# Altium footprint library BGA_Sq_127P.PcbLib: 89 footprints (part 4 of 20)
Each footprint in its own frame and in the unit in brackets; x right, y up, seen from the top. Pads: shape width x height; smd on the part's side, far side on the other; paste and mask are expansions set on the pad; w line width, h text height; cw(c..) or ccw(c..) is an arc to the next point about the centre after c.
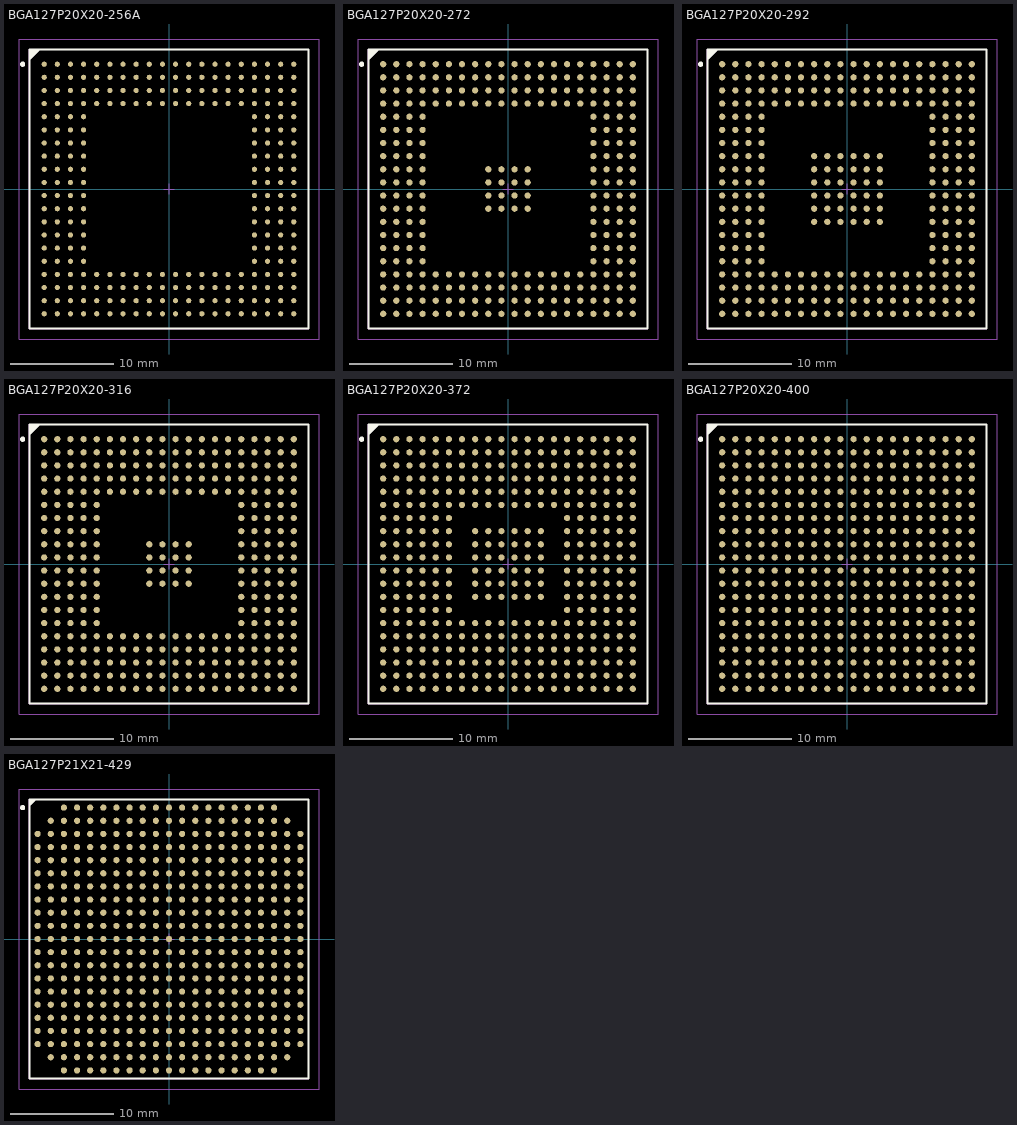
[diagram p3: the footprints below, top view; thin cyan lines are the x and y axes]

## BGA127P20X20-256A [mm] "BGA, 256-Leads, Body 27x27mm, Pitch 1.27mm"
height 1.67
pads (256):
  round 0.5 smd: A1(-12.065,12.065) A2(-10.795,12.065) A3(-9.525,12.065) A4(-8.255,12.065) A5(-6.985,12.065) A6(-5.715,12.065) A7(-4.445,12.065) A8(-3.175,12.065) A9(-1.905,12.065) A10(-0.635,12.065) A11(0.635,12.065) A12(1.905,12.065) A13(3.175,12.065) A14(4.445,12.065) A15(5.715,12.065) A16(6.985,12.065) A17(8.255,12.065) A18(9.525,12.065) A19(10.795,12.065) A20(12.065,12.065) B1(-12.065,10.795) B2(-10.795,10.795) B3(-9.525,10.795) B4(-8.255,10.795) B5(-6.985,10.795) B6(-5.715,10.795) B7(-4.445,10.795) B8(-3.175,10.795) B9(-1.905,10.795) B10(-0.635,10.795) B11(0.635,10.795) B12(1.905,10.795) B13(3.175,10.795) B14(4.445,10.795) B15(5.715,10.795) B16(6.985,10.795) B17(8.255,10.795) B18(9.525,10.795) B19(10.795,10.795) B20(12.065,10.795) C1(-12.065,9.525) C2(-10.795,9.525) C3(-9.525,9.525) C4(-8.255,9.525) C5(-6.985,9.525) C6(-5.715,9.525) C7(-4.445,9.525) C8(-3.175,9.525) C9(-1.905,9.525) C10(-0.635,9.525) C11(0.635,9.525) C12(1.905,9.525) C13(3.175,9.525) C14(4.445,9.525) C15(5.715,9.525) C16(6.985,9.525) C17(8.255,9.525) C18(9.525,9.525) C19(10.795,9.525) C20(12.065,9.525) D1(-12.065,8.255) D2(-10.795,8.255) D3(-9.525,8.255) D4(-8.255,8.255) D5(-6.985,8.255) D6(-5.715,8.255) D7(-4.445,8.255) D8(-3.175,8.255) D9(-1.905,8.255) D10(-0.635,8.255) D11(0.635,8.255) D12(1.905,8.255) D13(3.175,8.255) D14(4.445,8.255) D15(5.715,8.255) D16(6.985,8.255) D17(8.255,8.255) D18(9.525,8.255) D19(10.795,8.255) D20(12.065,8.255) E1(-12.065,6.985) E2(-10.795,6.985) E3(-9.525,6.985) E4(-8.255,6.985) E17(8.255,6.985) E18(9.525,6.985) E19(10.795,6.985) E20(12.065,6.985) F1(-12.065,5.715) F2(-10.795,5.715) F3(-9.525,5.715) F4(-8.255,5.715) F17(8.255,5.715) F18(9.525,5.715) F19(10.795,5.715) F20(12.065,5.715) G1(-12.065,4.445) G2(-10.795,4.445) G3(-9.525,4.445) G4(-8.255,4.445) G17(8.255,4.445) G18(9.525,4.445) G19(10.795,4.445) G20(12.065,4.445) H1(-12.065,3.175) H2(-10.795,3.175) H3(-9.525,3.175) H4(-8.255,3.175) H17(8.255,3.175) H18(9.525,3.175) H19(10.795,3.175) H20(12.065,3.175) J1(-12.065,1.905) J2(-10.795,1.905) J3(-9.525,1.905) J4(-8.255,1.905) J17(8.255,1.905) J18(9.525,1.905) J19(10.795,1.905) J20(12.065,1.905) K1(-12.065,0.635) K2(-10.795,0.635) K3(-9.525,0.635) K4(-8.255,0.635) K17(8.255,0.635) K18(9.525,0.635) K19(10.795,0.635) K20(12.065,0.635) L1(-12.065,-0.635) L2(-10.795,-0.635) L3(-9.525,-0.635) L4(-8.255,-0.635) L17(8.255,-0.635) L18(9.525,-0.635) L19(10.795,-0.635) L20(12.065,-0.635) M1(-12.065,-1.905) M2(-10.795,-1.905) M3(-9.525,-1.905) M4(-8.255,-1.905) M17(8.255,-1.905) M18(9.525,-1.905) M19(10.795,-1.905) M20(12.065,-1.905) N1(-12.065,-3.175) N2(-10.795,-3.175) N3(-9.525,-3.175) N4(-8.255,-3.175) N17(8.255,-3.175) N18(9.525,-3.175) N19(10.795,-3.175) N20(12.065,-3.175) P1(-12.065,-4.445) P2(-10.795,-4.445) P3(-9.525,-4.445) P4(-8.255,-4.445) P17(8.255,-4.445) P18(9.525,-4.445) P19(10.795,-4.445) P20(12.065,-4.445) R1(-12.065,-5.715) R2(-10.795,-5.715) R3(-9.525,-5.715) R4(-8.255,-5.715) R17(8.255,-5.715) R18(9.525,-5.715) R19(10.795,-5.715) R20(12.065,-5.715) T1(-12.065,-6.985) T2(-10.795,-6.985) T3(-9.525,-6.985) T4(-8.255,-6.985) T17(8.255,-6.985) T18(9.525,-6.985) T19(10.795,-6.985) T20(12.065,-6.985) U1(-12.065,-8.255) U2(-10.795,-8.255) U3(-9.525,-8.255) U4(-8.255,-8.255) U5(-6.985,-8.255) U6(-5.715,-8.255) U7(-4.445,-8.255) U8(-3.175,-8.255) U9(-1.905,-8.255) U10(-0.635,-8.255) U11(0.635,-8.255) U12(1.905,-8.255) U13(3.175,-8.255) U14(4.445,-8.255) U15(5.715,-8.255) U16(6.985,-8.255) U17(8.255,-8.255) U18(9.525,-8.255) U19(10.795,-8.255) U20(12.065,-8.255) V1(-12.065,-9.525) V2(-10.795,-9.525) V3(-9.525,-9.525) V4(-8.255,-9.525) V5(-6.985,-9.525) V6(-5.715,-9.525) V7(-4.445,-9.525) V8(-3.175,-9.525) V9(-1.905,-9.525) V10(-0.635,-9.525) V11(0.635,-9.525) V12(1.905,-9.525) V13(3.175,-9.525) V14(4.445,-9.525) V15(5.715,-9.525) V16(6.985,-9.525) V17(8.255,-9.525) V18(9.525,-9.525) V19(10.795,-9.525) V20(12.065,-9.525) W1(-12.065,-10.795) W2(-10.795,-10.795) W3(-9.525,-10.795) W4(-8.255,-10.795) W5(-6.985,-10.795) W6(-5.715,-10.795) W7(-4.445,-10.795) W8(-3.175,-10.795) W9(-1.905,-10.795) W10(-0.635,-10.795) W11(0.635,-10.795) W12(1.905,-10.795) W13(3.175,-10.795) W14(4.445,-10.795) W15(5.715,-10.795) W16(6.985,-10.795) W17(8.255,-10.795) W18(9.525,-10.795) W19(10.795,-10.795) W20(12.065,-10.795) Y1(-12.065,-12.065) Y2(-10.795,-12.065) Y3(-9.525,-12.065) Y4(-8.255,-12.065) Y5(-6.985,-12.065) Y6(-5.715,-12.065) Y7(-4.445,-12.065) Y8(-3.175,-12.065) Y9(-1.905,-12.065) Y10(-0.635,-12.065) Y11(0.635,-12.065) Y12(1.905,-12.065) Y13(3.175,-12.065) Y14(4.445,-12.065) Y15(5.715,-12.065) Y16(6.985,-12.065) Y17(8.255,-12.065) Y18(9.525,-12.065) Y19(10.795,-12.065) Y20(12.065,-12.065)
Top Overlay:
  circle w0.25: c-14.15,12.065 r0.125
  region: -12.5,13.5 -13.5,12.5 -13.5,13.5
  lines w0.2: -13.5,12.5 -12.5,13.5 ; -13.5,-13.5 13.5,-13.5 13.5,13.5 -13.5,13.5 -13.5,-13.5
Mechanical 13:
  lines w0.1: -13.5,-13.5 13.5,-13.5 13.5,13.5 -13.5,13.5 -13.5,-13.5
Mechanical 15:
  lines w0.1: -0.5,0 0.5,0 ; 0,-0.5 0,0.5 ; -14.5,-14.5 14.5,-14.5 14.5,14.5 -14.5,14.5 -14.5,-14.5
3D body: height 1.67, standoff 0, extent -13.5,-13.5 13.5,13.5

## BGA127P20X20-272 [mm] "BGA, 272-Leads, Body 27x27mm, Pitch 1.27mm"
height 2.5
pads (272):
  round 0.6 smd: A1(-12.065,12.065) A2(-10.795,12.065) A3(-9.525,12.065) A4(-8.255,12.065) A5(-6.985,12.065) A6(-5.715,12.065) A7(-4.445,12.065) A8(-3.175,12.065) A9(-1.905,12.065) A10(-0.635,12.065) A11(0.635,12.065) A12(1.905,12.065) A13(3.175,12.065) A14(4.445,12.065) A15(5.715,12.065) A16(6.985,12.065) A17(8.255,12.065) A18(9.525,12.065) A19(10.795,12.065) A20(12.065,12.065) B1(-12.065,10.795) B2(-10.795,10.795) B3(-9.525,10.795) B4(-8.255,10.795) B5(-6.985,10.795) B6(-5.715,10.795) B7(-4.445,10.795) B8(-3.175,10.795) B9(-1.905,10.795) B10(-0.635,10.795) B11(0.635,10.795) B12(1.905,10.795) B13(3.175,10.795) B14(4.445,10.795) B15(5.715,10.795) B16(6.985,10.795) B17(8.255,10.795) B18(9.525,10.795) B19(10.795,10.795) B20(12.065,10.795) C1(-12.065,9.525) C2(-10.795,9.525) C3(-9.525,9.525) C4(-8.255,9.525) C5(-6.985,9.525) C6(-5.715,9.525) C7(-4.445,9.525) C8(-3.175,9.525) C9(-1.905,9.525) C10(-0.635,9.525) C11(0.635,9.525) C12(1.905,9.525) C13(3.175,9.525) C14(4.445,9.525) C15(5.715,9.525) C16(6.985,9.525) C17(8.255,9.525) C18(9.525,9.525) C19(10.795,9.525) C20(12.065,9.525) D1(-12.065,8.255) D2(-10.795,8.255) D3(-9.525,8.255) D4(-8.255,8.255) D5(-6.985,8.255) D6(-5.715,8.255) D7(-4.445,8.255) D8(-3.175,8.255) D9(-1.905,8.255) D10(-0.635,8.255) D11(0.635,8.255) D12(1.905,8.255) D13(3.175,8.255) D14(4.445,8.255) D15(5.715,8.255) D16(6.985,8.255) D17(8.255,8.255) D18(9.525,8.255) D19(10.795,8.255) D20(12.065,8.255) E1(-12.065,6.985) E2(-10.795,6.985) E3(-9.525,6.985) E4(-8.255,6.985) E17(8.255,6.985) E18(9.525,6.985) E19(10.795,6.985) E20(12.065,6.985) F1(-12.065,5.715) F2(-10.795,5.715) F3(-9.525,5.715) F4(-8.255,5.715) F17(8.255,5.715) F18(9.525,5.715) F19(10.795,5.715) F20(12.065,5.715) G1(-12.065,4.445) G2(-10.795,4.445) G3(-9.525,4.445) G4(-8.255,4.445) G17(8.255,4.445) G18(9.525,4.445) G19(10.795,4.445) G20(12.065,4.445) H1(-12.065,3.175) H2(-10.795,3.175) H3(-9.525,3.175) H4(-8.255,3.175) H17(8.255,3.175) H18(9.525,3.175) H19(10.795,3.175) H20(12.065,3.175) J1(-12.065,1.905) J2(-10.795,1.905) J3(-9.525,1.905) J4(-8.255,1.905) J9(-1.905,1.905) J10(-0.635,1.905) J11(0.635,1.905) J12(1.905,1.905) J17(8.255,1.905) J18(9.525,1.905) J19(10.795,1.905) J20(12.065,1.905) K1(-12.065,0.635) K2(-10.795,0.635) K3(-9.525,0.635) K4(-8.255,0.635) K9(-1.905,0.635) K10(-0.635,0.635) K11(0.635,0.635) K12(1.905,0.635) K17(8.255,0.635) K18(9.525,0.635) K19(10.795,0.635) K20(12.065,0.635) L1(-12.065,-0.635) L2(-10.795,-0.635) L3(-9.525,-0.635) L4(-8.255,-0.635) L9(-1.905,-0.635) L10(-0.635,-0.635) L11(0.635,-0.635) L12(1.905,-0.635) L17(8.255,-0.635) L18(9.525,-0.635) L19(10.795,-0.635) L20(12.065,-0.635) M1(-12.065,-1.905) M2(-10.795,-1.905) M3(-9.525,-1.905) M4(-8.255,-1.905) M9(-1.905,-1.905) M10(-0.635,-1.905) M11(0.635,-1.905) M12(1.905,-1.905) M17(8.255,-1.905) M18(9.525,-1.905) M19(10.795,-1.905) M20(12.065,-1.905) N1(-12.065,-3.175) N2(-10.795,-3.175) N3(-9.525,-3.175) N4(-8.255,-3.175) N17(8.255,-3.175) N18(9.525,-3.175) N19(10.795,-3.175) N20(12.065,-3.175) P1(-12.065,-4.445) P2(-10.795,-4.445) P3(-9.525,-4.445) P4(-8.255,-4.445) P17(8.255,-4.445) P18(9.525,-4.445) P19(10.795,-4.445) P20(12.065,-4.445) R1(-12.065,-5.715) R2(-10.795,-5.715) R3(-9.525,-5.715) R4(-8.255,-5.715) R17(8.255,-5.715) R18(9.525,-5.715) R19(10.795,-5.715) R20(12.065,-5.715) T1(-12.065,-6.985) T2(-10.795,-6.985) T3(-9.525,-6.985) T4(-8.255,-6.985) T17(8.255,-6.985) T18(9.525,-6.985) T19(10.795,-6.985) T20(12.065,-6.985) U1(-12.065,-8.255) U2(-10.795,-8.255) U3(-9.525,-8.255) U4(-8.255,-8.255) U5(-6.985,-8.255) U6(-5.715,-8.255) U7(-4.445,-8.255) U8(-3.175,-8.255) U9(-1.905,-8.255) U10(-0.635,-8.255) U11(0.635,-8.255) U12(1.905,-8.255) U13(3.175,-8.255) U14(4.445,-8.255) U15(5.715,-8.255) U16(6.985,-8.255) U17(8.255,-8.255) U18(9.525,-8.255) U19(10.795,-8.255) U20(12.065,-8.255) V1(-12.065,-9.525) V2(-10.795,-9.525) V3(-9.525,-9.525) V4(-8.255,-9.525) V5(-6.985,-9.525) V6(-5.715,-9.525) V7(-4.445,-9.525) V8(-3.175,-9.525) V9(-1.905,-9.525) V10(-0.635,-9.525) V11(0.635,-9.525) V12(1.905,-9.525) V13(3.175,-9.525) V14(4.445,-9.525) V15(5.715,-9.525) V16(6.985,-9.525) V17(8.255,-9.525) V18(9.525,-9.525) V19(10.795,-9.525) V20(12.065,-9.525) W1(-12.065,-10.795) W2(-10.795,-10.795) W3(-9.525,-10.795) W4(-8.255,-10.795) W5(-6.985,-10.795) W6(-5.715,-10.795) W7(-4.445,-10.795) W8(-3.175,-10.795) W9(-1.905,-10.795) W10(-0.635,-10.795) W11(0.635,-10.795) W12(1.905,-10.795) W13(3.175,-10.795) W14(4.445,-10.795) W15(5.715,-10.795) W16(6.985,-10.795) W17(8.255,-10.795) W18(9.525,-10.795) W19(10.795,-10.795) W20(12.065,-10.795) Y1(-12.065,-12.065) Y2(-10.795,-12.065) Y3(-9.525,-12.065) Y4(-8.255,-12.065) Y5(-6.985,-12.065) Y6(-5.715,-12.065) Y7(-4.445,-12.065) Y8(-3.175,-12.065) Y9(-1.905,-12.065) Y10(-0.635,-12.065) Y11(0.635,-12.065) Y12(1.905,-12.065) Y13(3.175,-12.065) Y14(4.445,-12.065) Y15(5.715,-12.065) Y16(6.985,-12.065) Y17(8.255,-12.065) Y18(9.525,-12.065) Y19(10.795,-12.065) Y20(12.065,-12.065)
Top Overlay:
  circle w0.25: c-14.15,12.065 r0.125
  region: -12.5,13.5 -13.5,12.5 -13.5,13.5
  lines w0.2: -13.5,12.5 -12.5,13.5 ; -13.5,-13.5 -13.5,13.5 13.5,13.5 13.5,-13.5 -13.5,-13.5
Mechanical 13:
  lines w0.1: -13.5,-13.5 -13.5,13.5 13.5,13.5 13.5,-13.5 -13.5,-13.5
Mechanical 15:
  lines w0.1: -0.5,0 0.5,0 ; 0,-0.5 0,0.5 ; -14.5,-14.5 -14.5,14.5 14.5,14.5 14.5,-14.5 -14.5,-14.5
3D body: height 2.5, standoff 0, extent -13.5,-13.5 13.5,13.5

## BGA127P20X20-292 [mm] "BGA, 292-Leads, Body 27x27mm, Pitch 1.27mm"
height 2.58
pads (292):
  round 0.6 smd: A1(-12.065,12.065) A2(-10.795,12.065) A3(-9.525,12.065) A4(-8.255,12.065) A5(-6.985,12.065) A6(-5.715,12.065) A7(-4.445,12.065) A8(-3.175,12.065) A9(-1.905,12.065) A10(-0.635,12.065) A11(0.635,12.065) A12(1.905,12.065) A13(3.175,12.065) A14(4.445,12.065) A15(5.715,12.065) A16(6.985,12.065) A17(8.255,12.065) A18(9.525,12.065) A19(10.795,12.065) A20(12.065,12.065) B1(-12.065,10.795) B2(-10.795,10.795) B3(-9.525,10.795) B4(-8.255,10.795) B5(-6.985,10.795) B6(-5.715,10.795) B7(-4.445,10.795) B8(-3.175,10.795) B9(-1.905,10.795) B10(-0.635,10.795) B11(0.635,10.795) B12(1.905,10.795) B13(3.175,10.795) B14(4.445,10.795) B15(5.715,10.795) B16(6.985,10.795) B17(8.255,10.795) B18(9.525,10.795) B19(10.795,10.795) B20(12.065,10.795) C1(-12.065,9.525) C2(-10.795,9.525) C3(-9.525,9.525) C4(-8.255,9.525) C5(-6.985,9.525) C6(-5.715,9.525) C7(-4.445,9.525) C8(-3.175,9.525) C9(-1.905,9.525) C10(-0.635,9.525) C11(0.635,9.525) C12(1.905,9.525) C13(3.175,9.525) C14(4.445,9.525) C15(5.715,9.525) C16(6.985,9.525) C17(8.255,9.525) C18(9.525,9.525) C19(10.795,9.525) C20(12.065,9.525) D1(-12.065,8.255) D2(-10.795,8.255) D3(-9.525,8.255) D4(-8.255,8.255) D5(-6.985,8.255) D6(-5.715,8.255) D7(-4.445,8.255) D8(-3.175,8.255) D9(-1.905,8.255) D10(-0.635,8.255) D11(0.635,8.255) D12(1.905,8.255) D13(3.175,8.255) D14(4.445,8.255) D15(5.715,8.255) D16(6.985,8.255) D17(8.255,8.255) D18(9.525,8.255) D19(10.795,8.255) D20(12.065,8.255) E1(-12.065,6.985) E2(-10.795,6.985) E3(-9.525,6.985) E4(-8.255,6.985) E17(8.255,6.985) E18(9.525,6.985) E19(10.795,6.985) E20(12.065,6.985) F1(-12.065,5.715) F2(-10.795,5.715) F3(-9.525,5.715) F4(-8.255,5.715) F17(8.255,5.715) F18(9.525,5.715) F19(10.795,5.715) F20(12.065,5.715) G1(-12.065,4.445) G2(-10.795,4.445) G3(-9.525,4.445) G4(-8.255,4.445) G17(8.255,4.445) G18(9.525,4.445) G19(10.795,4.445) G20(12.065,4.445) H1(-12.065,3.175) H2(-10.795,3.175) H3(-9.525,3.175) H4(-8.255,3.175) H8(-3.175,3.175) H9(-1.905,3.175) H10(-0.635,3.175) H11(0.635,3.175) H12(1.905,3.175) H13(3.175,3.175) H17(8.255,3.175) H18(9.525,3.175) H19(10.795,3.175) H20(12.065,3.175) J1(-12.065,1.905) J2(-10.795,1.905) J3(-9.525,1.905) J4(-8.255,1.905) J8(-3.175,1.905) J9(-1.905,1.905) J10(-0.635,1.905) J11(0.635,1.905) J12(1.905,1.905) J13(3.175,1.905) J17(8.255,1.905) J18(9.525,1.905) J19(10.795,1.905) J20(12.065,1.905) K1(-12.065,0.635) K2(-10.795,0.635) K3(-9.525,0.635) K4(-8.255,0.635) K8(-3.175,0.635) K9(-1.905,0.635) K10(-0.635,0.635) K11(0.635,0.635) K12(1.905,0.635) K13(3.175,0.635) K17(8.255,0.635) K18(9.525,0.635) K19(10.795,0.635) K20(12.065,0.635) L1(-12.065,-0.635) L2(-10.795,-0.635) L3(-9.525,-0.635) L4(-8.255,-0.635) L8(-3.175,-0.635) L9(-1.905,-0.635) L10(-0.635,-0.635) L11(0.635,-0.635) L12(1.905,-0.635) L13(3.175,-0.635) L17(8.255,-0.635) L18(9.525,-0.635) L19(10.795,-0.635) L20(12.065,-0.635) M1(-12.065,-1.905) M2(-10.795,-1.905) M3(-9.525,-1.905) M4(-8.255,-1.905) M8(-3.175,-1.905) M9(-1.905,-1.905) M10(-0.635,-1.905) M11(0.635,-1.905) M12(1.905,-1.905) M13(3.175,-1.905) M17(8.255,-1.905) M18(9.525,-1.905) M19(10.795,-1.905) M20(12.065,-1.905) N1(-12.065,-3.175) N2(-10.795,-3.175) N3(-9.525,-3.175) N4(-8.255,-3.175) N8(-3.175,-3.175) N9(-1.905,-3.175) N10(-0.635,-3.175) N11(0.635,-3.175) N12(1.905,-3.175) N13(3.175,-3.175) N17(8.255,-3.175) N18(9.525,-3.175) N19(10.795,-3.175) N20(12.065,-3.175) P1(-12.065,-4.445) P2(-10.795,-4.445) P3(-9.525,-4.445) P4(-8.255,-4.445) P17(8.255,-4.445) P18(9.525,-4.445) P19(10.795,-4.445) P20(12.065,-4.445) R1(-12.065,-5.715) R2(-10.795,-5.715) R3(-9.525,-5.715) R4(-8.255,-5.715) R17(8.255,-5.715) R18(9.525,-5.715) R19(10.795,-5.715) R20(12.065,-5.715) T1(-12.065,-6.985) T2(-10.795,-6.985) T3(-9.525,-6.985) T4(-8.255,-6.985) T17(8.255,-6.985) T18(9.525,-6.985) T19(10.795,-6.985) T20(12.065,-6.985) U1(-12.065,-8.255) U2(-10.795,-8.255) U3(-9.525,-8.255) U4(-8.255,-8.255) U5(-6.985,-8.255) U6(-5.715,-8.255) U7(-4.445,-8.255) U8(-3.175,-8.255) U9(-1.905,-8.255) U10(-0.635,-8.255) U11(0.635,-8.255) U12(1.905,-8.255) U13(3.175,-8.255) U14(4.445,-8.255) U15(5.715,-8.255) U16(6.985,-8.255) U17(8.255,-8.255) U18(9.525,-8.255) U19(10.795,-8.255) U20(12.065,-8.255) V1(-12.065,-9.525) V2(-10.795,-9.525) V3(-9.525,-9.525) V4(-8.255,-9.525) V5(-6.985,-9.525) V6(-5.715,-9.525) V7(-4.445,-9.525) V8(-3.175,-9.525) V9(-1.905,-9.525) V10(-0.635,-9.525) V11(0.635,-9.525) V12(1.905,-9.525) V13(3.175,-9.525) V14(4.445,-9.525) V15(5.715,-9.525) V16(6.985,-9.525) V17(8.255,-9.525) V18(9.525,-9.525) V19(10.795,-9.525) V20(12.065,-9.525) W1(-12.065,-10.795) W2(-10.795,-10.795) W3(-9.525,-10.795) W4(-8.255,-10.795) W5(-6.985,-10.795) W6(-5.715,-10.795) W7(-4.445,-10.795) W8(-3.175,-10.795) W9(-1.905,-10.795) W10(-0.635,-10.795) W11(0.635,-10.795) W12(1.905,-10.795) W13(3.175,-10.795) W14(4.445,-10.795) W15(5.715,-10.795) W16(6.985,-10.795) W17(8.255,-10.795) W18(9.525,-10.795) W19(10.795,-10.795) W20(12.065,-10.795) Y1(-12.065,-12.065) Y2(-10.795,-12.065) Y3(-9.525,-12.065) Y4(-8.255,-12.065) Y5(-6.985,-12.065) Y6(-5.715,-12.065) Y7(-4.445,-12.065) Y8(-3.175,-12.065) Y9(-1.905,-12.065) Y10(-0.635,-12.065) Y11(0.635,-12.065) Y12(1.905,-12.065) Y13(3.175,-12.065) Y14(4.445,-12.065) Y15(5.715,-12.065) Y16(6.985,-12.065) Y17(8.255,-12.065) Y18(9.525,-12.065) Y19(10.795,-12.065) Y20(12.065,-12.065)
Top Overlay:
  circle w0.25: c-14.15,12.065 r0.125
  region: -12.5,13.5 -13.5,12.5 -13.5,13.5
  lines w0.2: -13.5,12.5 -12.5,13.5 ; -13.5,-13.5 -13.5,13.5 13.5,13.5 13.5,-13.5 -13.5,-13.5
Mechanical 13:
  lines w0.1: -13.5,-13.5 -13.5,13.5 13.5,13.5 13.5,-13.5 -13.5,-13.5
Mechanical 15:
  lines w0.1: -0.5,0 0.5,0 ; 0,-0.5 0,0.5 ; -14.5,-14.5 -14.5,14.5 14.5,14.5 14.5,-14.5 -14.5,-14.5
3D body: height 2.58, standoff 0, extent -13.5,-13.5 13.5,13.5

## BGA127P20X20-316 [mm] "BGA, 316-Leads, Body 27x27mm, Pitch 1.27mm"
height 2.65
pads (316):
  round 0.6 smd: A1(-12.065,12.065) A2(-10.795,12.065) A3(-9.525,12.065) A4(-8.255,12.065) A5(-6.985,12.065) A6(-5.715,12.065) A7(-4.445,12.065) A8(-3.175,12.065) A9(-1.905,12.065) A10(-0.635,12.065) A11(0.635,12.065) A12(1.905,12.065) A13(3.175,12.065) A14(4.445,12.065) A15(5.715,12.065) A16(6.985,12.065) A17(8.255,12.065) A18(9.525,12.065) A19(10.795,12.065) A20(12.065,12.065) B1(-12.065,10.795) B2(-10.795,10.795) B3(-9.525,10.795) B4(-8.255,10.795) B5(-6.985,10.795) B6(-5.715,10.795) B7(-4.445,10.795) B8(-3.175,10.795) B9(-1.905,10.795) B10(-0.635,10.795) B11(0.635,10.795) B12(1.905,10.795) B13(3.175,10.795) B14(4.445,10.795) B15(5.715,10.795) B16(6.985,10.795) B17(8.255,10.795) B18(9.525,10.795) B19(10.795,10.795) B20(12.065,10.795) C1(-12.065,9.525) C2(-10.795,9.525) C3(-9.525,9.525) C4(-8.255,9.525) C5(-6.985,9.525) C6(-5.715,9.525) C7(-4.445,9.525) C8(-3.175,9.525) C9(-1.905,9.525) C10(-0.635,9.525) C11(0.635,9.525) C12(1.905,9.525) C13(3.175,9.525) C14(4.445,9.525) C15(5.715,9.525) C16(6.985,9.525) C17(8.255,9.525) C18(9.525,9.525) C19(10.795,9.525) C20(12.065,9.525) D1(-12.065,8.255) D2(-10.795,8.255) D3(-9.525,8.255) D4(-8.255,8.255) D5(-6.985,8.255) D6(-5.715,8.255) D7(-4.445,8.255) D8(-3.175,8.255) D9(-1.905,8.255) D10(-0.635,8.255) D11(0.635,8.255) D12(1.905,8.255) D13(3.175,8.255) D14(4.445,8.255) D15(5.715,8.255) D16(6.985,8.255) D17(8.255,8.255) D18(9.525,8.255) D19(10.795,8.255) D20(12.065,8.255) E1(-12.065,6.985) E2(-10.795,6.985) E3(-9.525,6.985) E4(-8.255,6.985) E5(-6.985,6.985) E6(-5.715,6.985) E7(-4.445,6.985) E8(-3.175,6.985) E9(-1.905,6.985) E10(-0.635,6.985) E11(0.635,6.985) E12(1.905,6.985) E13(3.175,6.985) E14(4.445,6.985) E15(5.715,6.985) E16(6.985,6.985) E17(8.255,6.985) E18(9.525,6.985) E19(10.795,6.985) E20(12.065,6.985) F1(-12.065,5.715) F2(-10.795,5.715) F3(-9.525,5.715) F4(-8.255,5.715) F5(-6.985,5.715) F16(6.985,5.715) F17(8.255,5.715) F18(9.525,5.715) F19(10.795,5.715) F20(12.065,5.715) G1(-12.065,4.445) G2(-10.795,4.445) G3(-9.525,4.445) G4(-8.255,4.445) G5(-6.985,4.445) G16(6.985,4.445) G17(8.255,4.445) G18(9.525,4.445) G19(10.795,4.445) G20(12.065,4.445) H1(-12.065,3.175) H2(-10.795,3.175) H3(-9.525,3.175) H4(-8.255,3.175) H5(-6.985,3.175) H16(6.985,3.175) H17(8.255,3.175) H18(9.525,3.175) H19(10.795,3.175) H20(12.065,3.175) J1(-12.065,1.905) J2(-10.795,1.905) J3(-9.525,1.905) J4(-8.255,1.905) J5(-6.985,1.905) J9(-1.905,1.905) J10(-0.635,1.905) J11(0.635,1.905) J12(1.905,1.905) J16(6.985,1.905) J17(8.255,1.905) J18(9.525,1.905) J19(10.795,1.905) J20(12.065,1.905) K1(-12.065,0.635) K2(-10.795,0.635) K3(-9.525,0.635) K4(-8.255,0.635) K5(-6.985,0.635) K9(-1.905,0.635) K10(-0.635,0.635) K11(0.635,0.635) K12(1.905,0.635) K16(6.985,0.635) K17(8.255,0.635) K18(9.525,0.635) K19(10.795,0.635) K20(12.065,0.635) L1(-12.065,-0.635) L2(-10.795,-0.635) L3(-9.525,-0.635) L4(-8.255,-0.635) L5(-6.985,-0.635) L9(-1.905,-0.635) L10(-0.635,-0.635) L11(0.635,-0.635) L12(1.905,-0.635) L16(6.985,-0.635) L17(8.255,-0.635) L18(9.525,-0.635) L19(10.795,-0.635) L20(12.065,-0.635) M1(-12.065,-1.905) M2(-10.795,-1.905) M3(-9.525,-1.905) M4(-8.255,-1.905) M5(-6.985,-1.905) M9(-1.905,-1.905) M10(-0.635,-1.905) M11(0.635,-1.905) M12(1.905,-1.905) M16(6.985,-1.905) M17(8.255,-1.905) M18(9.525,-1.905) M19(10.795,-1.905) M20(12.065,-1.905) N1(-12.065,-3.175) N2(-10.795,-3.175) N3(-9.525,-3.175) N4(-8.255,-3.175) N5(-6.985,-3.175) N16(6.985,-3.175) N17(8.255,-3.175) N18(9.525,-3.175) N19(10.795,-3.175) N20(12.065,-3.175) P1(-12.065,-4.445) P2(-10.795,-4.445) P3(-9.525,-4.445) P4(-8.255,-4.445) P5(-6.985,-4.445) P16(6.985,-4.445) P17(8.255,-4.445) P18(9.525,-4.445) P19(10.795,-4.445) P20(12.065,-4.445) R1(-12.065,-5.715) R2(-10.795,-5.715) R3(-9.525,-5.715) R4(-8.255,-5.715) R5(-6.985,-5.715) R16(6.985,-5.715) R17(8.255,-5.715) R18(9.525,-5.715) R19(10.795,-5.715) R20(12.065,-5.715) T1(-12.065,-6.985) T2(-10.795,-6.985) T3(-9.525,-6.985) T4(-8.255,-6.985) T5(-6.985,-6.985) T6(-5.715,-6.985) T7(-4.445,-6.985) T8(-3.175,-6.985) T9(-1.905,-6.985) T10(-0.635,-6.985) T11(0.635,-6.985) T12(1.905,-6.985) T13(3.175,-6.985) T14(4.445,-6.985) T15(5.715,-6.985) T16(6.985,-6.985) T17(8.255,-6.985) T18(9.525,-6.985) T19(10.795,-6.985) T20(12.065,-6.985) U1(-12.065,-8.255) U2(-10.795,-8.255) U3(-9.525,-8.255) U4(-8.255,-8.255) U5(-6.985,-8.255) U6(-5.715,-8.255) U7(-4.445,-8.255) U8(-3.175,-8.255) U9(-1.905,-8.255) U10(-0.635,-8.255) U11(0.635,-8.255) U12(1.905,-8.255) U13(3.175,-8.255) U14(4.445,-8.255) U15(5.715,-8.255) U16(6.985,-8.255) U17(8.255,-8.255) U18(9.525,-8.255) U19(10.795,-8.255) U20(12.065,-8.255) V1(-12.065,-9.525) V2(-10.795,-9.525) V3(-9.525,-9.525) V4(-8.255,-9.525) V5(-6.985,-9.525) V6(-5.715,-9.525) V7(-4.445,-9.525) V8(-3.175,-9.525) V9(-1.905,-9.525) V10(-0.635,-9.525) V11(0.635,-9.525) V12(1.905,-9.525) V13(3.175,-9.525) V14(4.445,-9.525) V15(5.715,-9.525) V16(6.985,-9.525) V17(8.255,-9.525) V18(9.525,-9.525) V19(10.795,-9.525) V20(12.065,-9.525) W1(-12.065,-10.795) W2(-10.795,-10.795) W3(-9.525,-10.795) W4(-8.255,-10.795) W5(-6.985,-10.795) W6(-5.715,-10.795) W7(-4.445,-10.795) W8(-3.175,-10.795) W9(-1.905,-10.795) W10(-0.635,-10.795) W11(0.635,-10.795) W12(1.905,-10.795) W13(3.175,-10.795) W14(4.445,-10.795) W15(5.715,-10.795) W16(6.985,-10.795) W17(8.255,-10.795) W18(9.525,-10.795) W19(10.795,-10.795) W20(12.065,-10.795) Y1(-12.065,-12.065) Y2(-10.795,-12.065) Y3(-9.525,-12.065) Y4(-8.255,-12.065) Y5(-6.985,-12.065) Y6(-5.715,-12.065) Y7(-4.445,-12.065) Y8(-3.175,-12.065) Y9(-1.905,-12.065) Y10(-0.635,-12.065) Y11(0.635,-12.065) Y12(1.905,-12.065) Y13(3.175,-12.065) Y14(4.445,-12.065) Y15(5.715,-12.065) Y16(6.985,-12.065) Y17(8.255,-12.065) Y18(9.525,-12.065) Y19(10.795,-12.065) Y20(12.065,-12.065)
Top Overlay:
  circle w0.25: c-14.15,12.065 r0.125
  region: -12.5,13.5 -13.5,12.5 -13.5,13.5
  lines w0.2: -13.5,12.5 -12.5,13.5 ; -13.5,-13.5 -13.5,13.5 13.5,13.5 13.5,-13.5 -13.5,-13.5
Mechanical 13:
  lines w0.1: -13.5,-13.5 -13.5,13.5 13.5,13.5 13.5,-13.5 -13.5,-13.5
Mechanical 15:
  lines w0.1: -0.5,0 0.5,0 ; 0,-0.5 0,0.5 ; -14.5,-14.5 -14.5,14.5 14.5,14.5 14.5,-14.5 -14.5,-14.5
3D body: height 2.65, standoff 0, extent -13.5,-13.5 13.5,13.5

## BGA127P20X20-372 [mm] "372-Ball Plastic Ball Grid Array 1.27 mm Pitch"
height 2.6
pads (372):
  round 0.6 smd: A1(-12.065,12.065) A2(-10.795,12.065) A3(-9.525,12.065) A4(-8.255,12.065) A5(-6.985,12.065) A6(-5.715,12.065) A7(-4.445,12.065) A8(-3.175,12.065) A9(-1.905,12.065) A10(-0.635,12.065) A11(0.635,12.065) A12(1.905,12.065) A13(3.175,12.065) A14(4.445,12.065) A15(5.715,12.065) A16(6.985,12.065) A17(8.255,12.065) A18(9.525,12.065) A19(10.795,12.065) A20(12.065,12.065) B1(-12.065,10.795) B2(-10.795,10.795) B3(-9.525,10.795) B4(-8.255,10.795) B5(-6.985,10.795) B6(-5.715,10.795) B7(-4.445,10.795) B8(-3.175,10.795) B9(-1.905,10.795) B10(-0.635,10.795) B11(0.635,10.795) B12(1.905,10.795) B13(3.175,10.795) B14(4.445,10.795) B15(5.715,10.795) B16(6.985,10.795) B17(8.255,10.795) B18(9.525,10.795) B19(10.795,10.795) B20(12.065,10.795) C1(-12.065,9.525) C2(-10.795,9.525) C3(-9.525,9.525) C4(-8.255,9.525) C5(-6.985,9.525) C6(-5.715,9.525) C7(-4.445,9.525) C8(-3.175,9.525) C9(-1.905,9.525) C10(-0.635,9.525) C11(0.635,9.525) C12(1.905,9.525) C13(3.175,9.525) C14(4.445,9.525) C15(5.715,9.525) C16(6.985,9.525) C17(8.255,9.525) C18(9.525,9.525) C19(10.795,9.525) C20(12.065,9.525) D1(-12.065,8.255) D2(-10.795,8.255) D3(-9.525,8.255) D4(-8.255,8.255) D5(-6.985,8.255) D6(-5.715,8.255) D7(-4.445,8.255) D8(-3.175,8.255) D9(-1.905,8.255) D10(-0.635,8.255) D11(0.635,8.255) D12(1.905,8.255) D13(3.175,8.255) D14(4.445,8.255) D15(5.715,8.255) D16(6.985,8.255) D17(8.255,8.255) D18(9.525,8.255) D19(10.795,8.255) D20(12.065,8.255) E1(-12.065,6.985) E2(-10.795,6.985) E3(-9.525,6.985) E4(-8.255,6.985) E5(-6.985,6.985) E6(-5.715,6.985) E7(-4.445,6.985) E8(-3.175,6.985) E9(-1.905,6.985) E10(-0.635,6.985) E11(0.635,6.985) E12(1.905,6.985) E13(3.175,6.985) E14(4.445,6.985) E15(5.715,6.985) E16(6.985,6.985) E17(8.255,6.985) E18(9.525,6.985) E19(10.795,6.985) E20(12.065,6.985) F1(-12.065,5.715) F2(-10.795,5.715) F3(-9.525,5.715) F4(-8.255,5.715) F5(-6.985,5.715) F6(-5.715,5.715) F7(-4.445,5.715) F8(-3.175,5.715) F9(-1.905,5.715) F10(-0.635,5.715) F11(0.635,5.715) F12(1.905,5.715) F13(3.175,5.715) F14(4.445,5.715) F15(5.715,5.715) F16(6.985,5.715) F17(8.255,5.715) F18(9.525,5.715) F19(10.795,5.715) F20(12.065,5.715) G1(-12.065,4.445) G2(-10.795,4.445) G3(-9.525,4.445) G4(-8.255,4.445) G5(-6.985,4.445) G6(-5.715,4.445) G15(5.715,4.445) G16(6.985,4.445) G17(8.255,4.445) G18(9.525,4.445) G19(10.795,4.445) G20(12.065,4.445) H1(-12.065,3.175) H2(-10.795,3.175) H3(-9.525,3.175) H4(-8.255,3.175) H5(-6.985,3.175) H6(-5.715,3.175) H8(-3.175,3.175) H9(-1.905,3.175) H10(-0.635,3.175) H11(0.635,3.175) H12(1.905,3.175) H13(3.175,3.175) H15(5.715,3.175) H16(6.985,3.175) H17(8.255,3.175) H18(9.525,3.175) H19(10.795,3.175) H20(12.065,3.175) J1(-12.065,1.905) J2(-10.795,1.905) J3(-9.525,1.905) J4(-8.255,1.905) J5(-6.985,1.905) J6(-5.715,1.905) J8(-3.175,1.905) J9(-1.905,1.905) J10(-0.635,1.905) J11(0.635,1.905) J12(1.905,1.905) J13(3.175,1.905) J15(5.715,1.905) J16(6.985,1.905) J17(8.255,1.905) J18(9.525,1.905) J19(10.795,1.905) J20(12.065,1.905) K1(-12.065,0.635) K2(-10.795,0.635) K3(-9.525,0.635) K4(-8.255,0.635) K5(-6.985,0.635) K6(-5.715,0.635) K8(-3.175,0.635) K9(-1.905,0.635) K10(-0.635,0.635) K11(0.635,0.635) K12(1.905,0.635) K13(3.175,0.635) K15(5.715,0.635) K16(6.985,0.635) K17(8.255,0.635) K18(9.525,0.635) K19(10.795,0.635) K20(12.065,0.635) L1(-12.065,-0.635) L2(-10.795,-0.635) L3(-9.525,-0.635) L4(-8.255,-0.635) L5(-6.985,-0.635) L6(-5.715,-0.635) L8(-3.175,-0.635) L9(-1.905,-0.635) L10(-0.635,-0.635) L11(0.635,-0.635) L12(1.905,-0.635) L13(3.175,-0.635) L15(5.715,-0.635) L16(6.985,-0.635) L17(8.255,-0.635) L18(9.525,-0.635) L19(10.795,-0.635) L20(12.065,-0.635) M1(-12.065,-1.905) M2(-10.795,-1.905) M3(-9.525,-1.905) M4(-8.255,-1.905) M5(-6.985,-1.905) M6(-5.715,-1.905) M8(-3.175,-1.905) M9(-1.905,-1.905) M10(-0.635,-1.905) M11(0.635,-1.905) M12(1.905,-1.905) M13(3.175,-1.905) M15(5.715,-1.905) M16(6.985,-1.905) M17(8.255,-1.905) M18(9.525,-1.905) M19(10.795,-1.905) M20(12.065,-1.905) N1(-12.065,-3.175) N2(-10.795,-3.175) N3(-9.525,-3.175) N4(-8.255,-3.175) N5(-6.985,-3.175) N6(-5.715,-3.175) N8(-3.175,-3.175) N9(-1.905,-3.175) N10(-0.635,-3.175) N11(0.635,-3.175) N12(1.905,-3.175) N13(3.175,-3.175) N15(5.715,-3.175) N16(6.985,-3.175) N17(8.255,-3.175) N18(9.525,-3.175) N19(10.795,-3.175) N20(12.065,-3.175) P1(-12.065,-4.445) P2(-10.795,-4.445) P3(-9.525,-4.445) P4(-8.255,-4.445) P5(-6.985,-4.445) P6(-5.715,-4.445) P15(5.715,-4.445) P16(6.985,-4.445) P17(8.255,-4.445) P18(9.525,-4.445) P19(10.795,-4.445) P20(12.065,-4.445) R1(-12.065,-5.715) R2(-10.795,-5.715) R3(-9.525,-5.715) R4(-8.255,-5.715) R5(-6.985,-5.715) R6(-5.715,-5.715) R7(-4.445,-5.715) R8(-3.175,-5.715) R9(-1.905,-5.715) R10(-0.635,-5.715) R11(0.635,-5.715) R12(1.905,-5.715) R13(3.175,-5.715) R14(4.445,-5.715) R15(5.715,-5.715) R16(6.985,-5.715) R17(8.255,-5.715) R18(9.525,-5.715) R19(10.795,-5.715) R20(12.065,-5.715) T1(-12.065,-6.985) T2(-10.795,-6.985) T3(-9.525,-6.985) T4(-8.255,-6.985) T5(-6.985,-6.985) T6(-5.715,-6.985) T7(-4.445,-6.985) T8(-3.175,-6.985) T9(-1.905,-6.985) T10(-0.635,-6.985) T11(0.635,-6.985) T12(1.905,-6.985) T13(3.175,-6.985) T14(4.445,-6.985) T15(5.715,-6.985) T16(6.985,-6.985) T17(8.255,-6.985) T18(9.525,-6.985) T19(10.795,-6.985) T20(12.065,-6.985) U1(-12.065,-8.255) U2(-10.795,-8.255) U3(-9.525,-8.255) U4(-8.255,-8.255) U5(-6.985,-8.255) U6(-5.715,-8.255) U7(-4.445,-8.255) U8(-3.175,-8.255) U9(-1.905,-8.255) U10(-0.635,-8.255) U11(0.635,-8.255) U12(1.905,-8.255) U13(3.175,-8.255) U14(4.445,-8.255) U15(5.715,-8.255) U16(6.985,-8.255) U17(8.255,-8.255) U18(9.525,-8.255) U19(10.795,-8.255) U20(12.065,-8.255) V1(-12.065,-9.525) V2(-10.795,-9.525) V3(-9.525,-9.525) V4(-8.255,-9.525) V5(-6.985,-9.525) V6(-5.715,-9.525) V7(-4.445,-9.525) V8(-3.175,-9.525) V9(-1.905,-9.525) V10(-0.635,-9.525) V11(0.635,-9.525) V12(1.905,-9.525) V13(3.175,-9.525) V14(4.445,-9.525) V15(5.715,-9.525) V16(6.985,-9.525) V17(8.255,-9.525) V18(9.525,-9.525) V19(10.795,-9.525) V20(12.065,-9.525) W1(-12.065,-10.795) W2(-10.795,-10.795) W3(-9.525,-10.795) W4(-8.255,-10.795) W5(-6.985,-10.795) W6(-5.715,-10.795) W7(-4.445,-10.795) W8(-3.175,-10.795) W9(-1.905,-10.795) W10(-0.635,-10.795) W11(0.635,-10.795) W12(1.905,-10.795) W13(3.175,-10.795) W14(4.445,-10.795) W15(5.715,-10.795) W16(6.985,-10.795) W17(8.255,-10.795) W18(9.525,-10.795) W19(10.795,-10.795) W20(12.065,-10.795) Y1(-12.065,-12.065) Y2(-10.795,-12.065) Y3(-9.525,-12.065) Y4(-8.255,-12.065) Y5(-6.985,-12.065) Y6(-5.715,-12.065) Y7(-4.445,-12.065) Y8(-3.175,-12.065) Y9(-1.905,-12.065) Y10(-0.635,-12.065) Y11(0.635,-12.065) Y12(1.905,-12.065) Y13(3.175,-12.065) Y14(4.445,-12.065) Y15(5.715,-12.065) Y16(6.985,-12.065) Y17(8.255,-12.065) Y18(9.525,-12.065) Y19(10.795,-12.065) Y20(12.065,-12.065)
Top Overlay:
  circle w0.25: c-14.15,12.065 r0.125
  region: -12.5,13.5 -13.5,12.5 -13.5,13.5
  lines w0.2: -13.5,12.5 -12.5,13.5 ; -13.5,-13.5 -13.5,13.5 13.5,13.5 13.5,-13.5 -13.5,-13.5
Mechanical 13:
  lines w0.1: -13.5,-13.5 -13.5,13.5 13.5,13.5 13.5,-13.5 -13.5,-13.5
Mechanical 15:
  lines w0.1: -0.5,0 0.5,0 ; 0,-0.5 0,0.5 ; -14.5,-14.5 -14.5,14.5 14.5,14.5 14.5,-14.5 -14.5,-14.5
3D body: height 2.6, standoff 0, extent -13.5,-13.5 13.5,13.5

## BGA127P20X20-400 [mm] "BGA, 400-Leads, Body 27x27mm, Pitch 1.27mm"
height 2.3
pads (400):
  round 0.6 smd: A1(-12.065,12.065) A2(-10.795,12.065) A3(-9.525,12.065) A4(-8.255,12.065) A5(-6.985,12.065) A6(-5.715,12.065) A7(-4.445,12.065) A8(-3.175,12.065) A9(-1.905,12.065) A10(-0.635,12.065) A11(0.635,12.065) A12(1.905,12.065) A13(3.175,12.065) A14(4.445,12.065) A15(5.715,12.065) A16(6.985,12.065) A17(8.255,12.065) A18(9.525,12.065) A19(10.795,12.065) A20(12.065,12.065) B1(-12.065,10.795) B2(-10.795,10.795) B3(-9.525,10.795) B4(-8.255,10.795) B5(-6.985,10.795) B6(-5.715,10.795) B7(-4.445,10.795) B8(-3.175,10.795) B9(-1.905,10.795) B10(-0.635,10.795) B11(0.635,10.795) B12(1.905,10.795) B13(3.175,10.795) B14(4.445,10.795) B15(5.715,10.795) B16(6.985,10.795) B17(8.255,10.795) B18(9.525,10.795) B19(10.795,10.795) B20(12.065,10.795) C1(-12.065,9.525) C2(-10.795,9.525) C3(-9.525,9.525) C4(-8.255,9.525) C5(-6.985,9.525) C6(-5.715,9.525) C7(-4.445,9.525) C8(-3.175,9.525) C9(-1.905,9.525) C10(-0.635,9.525) C11(0.635,9.525) C12(1.905,9.525) C13(3.175,9.525) C14(4.445,9.525) C15(5.715,9.525) C16(6.985,9.525) C17(8.255,9.525) C18(9.525,9.525) C19(10.795,9.525) C20(12.065,9.525) D1(-12.065,8.255) D2(-10.795,8.255) D3(-9.525,8.255) D4(-8.255,8.255) D5(-6.985,8.255) D6(-5.715,8.255) D7(-4.445,8.255) D8(-3.175,8.255) D9(-1.905,8.255) D10(-0.635,8.255) D11(0.635,8.255) D12(1.905,8.255) D13(3.175,8.255) D14(4.445,8.255) D15(5.715,8.255) D16(6.985,8.255) D17(8.255,8.255) D18(9.525,8.255) D19(10.795,8.255) D20(12.065,8.255) E1(-12.065,6.985) E2(-10.795,6.985) E3(-9.525,6.985) E4(-8.255,6.985) E5(-6.985,6.985) E6(-5.715,6.985) E7(-4.445,6.985) E8(-3.175,6.985) E9(-1.905,6.985) E10(-0.635,6.985) E11(0.635,6.985) E12(1.905,6.985) E13(3.175,6.985) E14(4.445,6.985) E15(5.715,6.985) E16(6.985,6.985) E17(8.255,6.985) E18(9.525,6.985) E19(10.795,6.985) E20(12.065,6.985) F1(-12.065,5.715) F2(-10.795,5.715) F3(-9.525,5.715) F4(-8.255,5.715) F5(-6.985,5.715) F6(-5.715,5.715) F7(-4.445,5.715) F8(-3.175,5.715) F9(-1.905,5.715) F10(-0.635,5.715) F11(0.635,5.715) F12(1.905,5.715) F13(3.175,5.715) F14(4.445,5.715) F15(5.715,5.715) F16(6.985,5.715) F17(8.255,5.715) F18(9.525,5.715) F19(10.795,5.715) F20(12.065,5.715) G1(-12.065,4.445) G2(-10.795,4.445) G3(-9.525,4.445) G4(-8.255,4.445) G5(-6.985,4.445) G6(-5.715,4.445) G7(-4.445,4.445) G8(-3.175,4.445) G9(-1.905,4.445) G10(-0.635,4.445) G11(0.635,4.445) G12(1.905,4.445) G13(3.175,4.445) G14(4.445,4.445) G15(5.715,4.445) G16(6.985,4.445) G17(8.255,4.445) G18(9.525,4.445) G19(10.795,4.445) G20(12.065,4.445) H1(-12.065,3.175) H2(-10.795,3.175) H3(-9.525,3.175) H4(-8.255,3.175) H5(-6.985,3.175) H6(-5.715,3.175) H7(-4.445,3.175) H8(-3.175,3.175) H9(-1.905,3.175) H10(-0.635,3.175) H11(0.635,3.175) H12(1.905,3.175) H13(3.175,3.175) H14(4.445,3.175) H15(5.715,3.175) H16(6.985,3.175) H17(8.255,3.175) H18(9.525,3.175) H19(10.795,3.175) H20(12.065,3.175) J1(-12.065,1.905) J2(-10.795,1.905) J3(-9.525,1.905) J4(-8.255,1.905) J5(-6.985,1.905) J6(-5.715,1.905) J7(-4.445,1.905) J8(-3.175,1.905) J9(-1.905,1.905) J10(-0.635,1.905) J11(0.635,1.905) J12(1.905,1.905) J13(3.175,1.905) J14(4.445,1.905) J15(5.715,1.905) J16(6.985,1.905) J17(8.255,1.905) J18(9.525,1.905) J19(10.795,1.905) J20(12.065,1.905) K1(-12.065,0.635) K2(-10.795,0.635) K3(-9.525,0.635) K4(-8.255,0.635) K5(-6.985,0.635) K6(-5.715,0.635) K7(-4.445,0.635) K8(-3.175,0.635) K9(-1.905,0.635) K10(-0.635,0.635) K11(0.635,0.635) K12(1.905,0.635) K13(3.175,0.635) K14(4.445,0.635) K15(5.715,0.635) K16(6.985,0.635) K17(8.255,0.635) K18(9.525,0.635) K19(10.795,0.635) K20(12.065,0.635) L1(-12.065,-0.635) L2(-10.795,-0.635) L3(-9.525,-0.635) L4(-8.255,-0.635) L5(-6.985,-0.635) L6(-5.715,-0.635) L7(-4.445,-0.635) L8(-3.175,-0.635) L9(-1.905,-0.635) L10(-0.635,-0.635) L11(0.635,-0.635) L12(1.905,-0.635) L13(3.175,-0.635) L14(4.445,-0.635) L15(5.715,-0.635) L16(6.985,-0.635) L17(8.255,-0.635) L18(9.525,-0.635) L19(10.795,-0.635) L20(12.065,-0.635) M1(-12.065,-1.905) M2(-10.795,-1.905) M3(-9.525,-1.905) M4(-8.255,-1.905) M5(-6.985,-1.905) M6(-5.715,-1.905) M7(-4.445,-1.905) M8(-3.175,-1.905) M9(-1.905,-1.905) M10(-0.635,-1.905) M11(0.635,-1.905) M12(1.905,-1.905) M13(3.175,-1.905) M14(4.445,-1.905) M15(5.715,-1.905) M16(6.985,-1.905) M17(8.255,-1.905) M18(9.525,-1.905) M19(10.795,-1.905) M20(12.065,-1.905) N1(-12.065,-3.175) N2(-10.795,-3.175) N3(-9.525,-3.175) N4(-8.255,-3.175) N5(-6.985,-3.175) N6(-5.715,-3.175) N7(-4.445,-3.175) N8(-3.175,-3.175) N9(-1.905,-3.175) N10(-0.635,-3.175) N11(0.635,-3.175) N12(1.905,-3.175) N13(3.175,-3.175) N14(4.445,-3.175) N15(5.715,-3.175) N16(6.985,-3.175) N17(8.255,-3.175) N18(9.525,-3.175) N19(10.795,-3.175) N20(12.065,-3.175) P1(-12.065,-4.445) P2(-10.795,-4.445) P3(-9.525,-4.445) P4(-8.255,-4.445) P5(-6.985,-4.445) P6(-5.715,-4.445) P7(-4.445,-4.445) P8(-3.175,-4.445) P9(-1.905,-4.445) P10(-0.635,-4.445) P11(0.635,-4.445) P12(1.905,-4.445) P13(3.175,-4.445) P14(4.445,-4.445) P15(5.715,-4.445) P16(6.985,-4.445) P17(8.255,-4.445) P18(9.525,-4.445) P19(10.795,-4.445) P20(12.065,-4.445) R1(-12.065,-5.715) R2(-10.795,-5.715) R3(-9.525,-5.715) R4(-8.255,-5.715) R5(-6.985,-5.715) R6(-5.715,-5.715) R7(-4.445,-5.715) R8(-3.175,-5.715) R9(-1.905,-5.715) R10(-0.635,-5.715) R11(0.635,-5.715) R12(1.905,-5.715) R13(3.175,-5.715) R14(4.445,-5.715) R15(5.715,-5.715) R16(6.985,-5.715) R17(8.255,-5.715) R18(9.525,-5.715) R19(10.795,-5.715) R20(12.065,-5.715) T1(-12.065,-6.985) T2(-10.795,-6.985) T3(-9.525,-6.985) T4(-8.255,-6.985) T5(-6.985,-6.985) T6(-5.715,-6.985) T7(-4.445,-6.985) T8(-3.175,-6.985) T9(-1.905,-6.985) T10(-0.635,-6.985) T11(0.635,-6.985) T12(1.905,-6.985) T13(3.175,-6.985) T14(4.445,-6.985) T15(5.715,-6.985) T16(6.985,-6.985) T17(8.255,-6.985) T18(9.525,-6.985) T19(10.795,-6.985) T20(12.065,-6.985) U1(-12.065,-8.255) U2(-10.795,-8.255) U3(-9.525,-8.255) U4(-8.255,-8.255) U5(-6.985,-8.255) U6(-5.715,-8.255) U7(-4.445,-8.255) U8(-3.175,-8.255) U9(-1.905,-8.255) U10(-0.635,-8.255) U11(0.635,-8.255) U12(1.905,-8.255) U13(3.175,-8.255) U14(4.445,-8.255) U15(5.715,-8.255) U16(6.985,-8.255) U17(8.255,-8.255) U18(9.525,-8.255) U19(10.795,-8.255) U20(12.065,-8.255) V1(-12.065,-9.525) V2(-10.795,-9.525) V3(-9.525,-9.525) V4(-8.255,-9.525) V5(-6.985,-9.525) V6(-5.715,-9.525) V7(-4.445,-9.525) V8(-3.175,-9.525) V9(-1.905,-9.525) V10(-0.635,-9.525) V11(0.635,-9.525) V12(1.905,-9.525) V13(3.175,-9.525) V14(4.445,-9.525) V15(5.715,-9.525) V16(6.985,-9.525) V17(8.255,-9.525) V18(9.525,-9.525) V19(10.795,-9.525) V20(12.065,-9.525) W1(-12.065,-10.795) W2(-10.795,-10.795) W3(-9.525,-10.795) W4(-8.255,-10.795) W5(-6.985,-10.795) W6(-5.715,-10.795) W7(-4.445,-10.795) W8(-3.175,-10.795) W9(-1.905,-10.795) W10(-0.635,-10.795) W11(0.635,-10.795) W12(1.905,-10.795) W13(3.175,-10.795) W14(4.445,-10.795) W15(5.715,-10.795) W16(6.985,-10.795) W17(8.255,-10.795) W18(9.525,-10.795) W19(10.795,-10.795) W20(12.065,-10.795) Y1(-12.065,-12.065) Y2(-10.795,-12.065) Y3(-9.525,-12.065) Y4(-8.255,-12.065) Y5(-6.985,-12.065) Y6(-5.715,-12.065) Y7(-4.445,-12.065) Y8(-3.175,-12.065) Y9(-1.905,-12.065) Y10(-0.635,-12.065) Y11(0.635,-12.065) Y12(1.905,-12.065) Y13(3.175,-12.065) Y14(4.445,-12.065) Y15(5.715,-12.065) Y16(6.985,-12.065) Y17(8.255,-12.065) Y18(9.525,-12.065) Y19(10.795,-12.065) Y20(12.065,-12.065)
Top Overlay:
  circle w0.25: c-14.15,12.065 r0.125
  region: -12.5,13.5 -13.5,12.5 -13.5,13.5
  lines w0.2: -13.5,12.5 -12.5,13.5 ; -13.5,-13.5 -13.5,13.5 13.5,13.5 13.5,-13.5 -13.5,-13.5
Mechanical 13:
  lines w0.1: -13.5,-13.5 -13.5,13.5 13.5,13.5 13.5,-13.5 -13.5,-13.5
Mechanical 15:
  lines w0.1: -0.5,0 0.5,0 ; 0,-0.5 0,0.5 ; -14.5,-14.5 -14.5,14.5 14.5,14.5 14.5,-14.5 -14.5,-14.5
3D body: height 2.3, standoff 0, extent -13.5,-13.5 13.5,13.5

## BGA127P21X21-429 [mm] "429-Ball Ceramic Ball Grid Array 1.27 mm Pitch"
height 3.3
pads (429):
  round 0.6 smd: A3(-10.16,12.7) A4(-8.89,12.7) A5(-7.62,12.7) A6(-6.35,12.7) A7(-5.08,12.7) A8(-3.81,12.7) A9(-2.54,12.7) A10(-1.27,12.7) A11(0,12.7) A12(1.27,12.7) A13(2.54,12.7) A14(3.81,12.7) A15(5.08,12.7) A16(6.35,12.7) A17(7.62,12.7) A18(8.89,12.7) A19(10.16,12.7) AA3(-10.16,-12.7) AA4(-8.89,-12.7) AA5(-7.62,-12.7) AA6(-6.35,-12.7) AA7(-5.08,-12.7) AA8(-3.81,-12.7) AA9(-2.54,-12.7) AA10(-1.27,-12.7) AA11(0,-12.7) AA12(1.27,-12.7) AA13(2.54,-12.7) AA14(3.81,-12.7) AA15(5.08,-12.7) AA16(6.35,-12.7) AA17(7.62,-12.7) AA18(8.89,-12.7) AA19(10.16,-12.7) B2(-11.43,11.43) B3(-10.16,11.43) B4(-8.89,11.43) B5(-7.62,11.43) B6(-6.35,11.43) B7(-5.08,11.43) B8(-3.81,11.43) B9(-2.54,11.43) B10(-1.27,11.43) B11(0,11.43) B12(1.27,11.43) B13(2.54,11.43) B14(3.81,11.43) B15(5.08,11.43) B16(6.35,11.43) B17(7.62,11.43) B18(8.89,11.43) B19(10.16,11.43) B20(11.43,11.43) C1(-12.7,10.16) C2(-11.43,10.16) C3(-10.16,10.16) C4(-8.89,10.16) C5(-7.62,10.16) C6(-6.35,10.16) C7(-5.08,10.16) C8(-3.81,10.16) C9(-2.54,10.16) C10(-1.27,10.16) C11(0,10.16) C12(1.27,10.16) C13(2.54,10.16) C14(3.81,10.16) C15(5.08,10.16) C16(6.35,10.16) C17(7.62,10.16) C18(8.89,10.16) C19(10.16,10.16) C20(11.43,10.16) C21(12.7,10.16) D1(-12.7,8.89) D2(-11.43,8.89) D3(-10.16,8.89) D4(-8.89,8.89) D5(-7.62,8.89) D6(-6.35,8.89) D7(-5.08,8.89) D8(-3.81,8.89) D9(-2.54,8.89) D10(-1.27,8.89) D11(0,8.89) D12(1.27,8.89) D13(2.54,8.89) D14(3.81,8.89) D15(5.08,8.89) D16(6.35,8.89) D17(7.62,8.89) D18(8.89,8.89) D19(10.16,8.89) D20(11.43,8.89) D21(12.7,8.89) E1(-12.7,7.62) E2(-11.43,7.62) E3(-10.16,7.62) E4(-8.89,7.62) E5(-7.62,7.62) E6(-6.35,7.62) E7(-5.08,7.62) E8(-3.81,7.62) E9(-2.54,7.62) E10(-1.27,7.62) E11(0,7.62) E12(1.27,7.62) E13(2.54,7.62) E14(3.81,7.62) E15(5.08,7.62) E16(6.35,7.62) E17(7.62,7.62) E18(8.89,7.62) E19(10.16,7.62) E20(11.43,7.62) E21(12.7,7.62) F1(-12.7,6.35) F2(-11.43,6.35) F3(-10.16,6.35) F4(-8.89,6.35) F5(-7.62,6.35) F6(-6.35,6.35) F7(-5.08,6.35) F8(-3.81,6.35) F9(-2.54,6.35) F10(-1.27,6.35) F11(0,6.35) F12(1.27,6.35) F13(2.54,6.35) F14(3.81,6.35) F15(5.08,6.35) F16(6.35,6.35) F17(7.62,6.35) F18(8.89,6.35) F19(10.16,6.35) F20(11.43,6.35) F21(12.7,6.35) G1(-12.7,5.08) G2(-11.43,5.08) G3(-10.16,5.08) G4(-8.89,5.08) G5(-7.62,5.08) G6(-6.35,5.08) G7(-5.08,5.08) G8(-3.81,5.08) G9(-2.54,5.08) G10(-1.27,5.08) G11(0,5.08) G12(1.27,5.08) G13(2.54,5.08) G14(3.81,5.08) G15(5.08,5.08) G16(6.35,5.08) G17(7.62,5.08) G18(8.89,5.08) G19(10.16,5.08) G20(11.43,5.08) G21(12.7,5.08) H1(-12.7,3.81) H2(-11.43,3.81) H3(-10.16,3.81) H4(-8.89,3.81) H5(-7.62,3.81) H6(-6.35,3.81) H7(-5.08,3.81) H8(-3.81,3.81) H9(-2.54,3.81) H10(-1.27,3.81) H11(0,3.81) H12(1.27,3.81) H13(2.54,3.81) H14(3.81,3.81) H15(5.08,3.81) H16(6.35,3.81) H17(7.62,3.81) H18(8.89,3.81) H19(10.16,3.81) H20(11.43,3.81) H21(12.7,3.81) J1(-12.7,2.54) J2(-11.43,2.54) J3(-10.16,2.54) J4(-8.89,2.54) J5(-7.62,2.54) J6(-6.35,2.54) J7(-5.08,2.54) J8(-3.81,2.54) J9(-2.54,2.54) J10(-1.27,2.54) J11(0,2.54) J12(1.27,2.54) J13(2.54,2.54) J14(3.81,2.54) J15(5.08,2.54) J16(6.35,2.54) J17(7.62,2.54) J18(8.89,2.54) J19(10.16,2.54) J20(11.43,2.54) J21(12.7,2.54) K1(-12.7,1.27) K2(-11.43,1.27) K3(-10.16,1.27) K4(-8.89,1.27) K5(-7.62,1.27) K6(-6.35,1.27) K7(-5.08,1.27) K8(-3.81,1.27) K9(-2.54,1.27) K10(-1.27,1.27) K11(0,1.27) K12(1.27,1.27) K13(2.54,1.27) K14(3.81,1.27) K15(5.08,1.27) K16(6.35,1.27) K17(7.62,1.27) K18(8.89,1.27) K19(10.16,1.27) K20(11.43,1.27) K21(12.7,1.27) L1(-12.7,0) L2(-11.43,0) L3(-10.16,0) L4(-8.89,0) L5(-7.62,0) L6(-6.35,0) L7(-5.08,0) L8(-3.81,0) L9(-2.54,0) L10(-1.27,0) L11(0,0) L12(1.27,0) L13(2.54,0) L14(3.81,0) L15(5.08,0) L16(6.35,0) L17(7.62,0) L18(8.89,0) L19(10.16,0) L20(11.43,0) L21(12.7,0) M1(-12.7,-1.27) M2(-11.43,-1.27) M3(-10.16,-1.27) M4(-8.89,-1.27) M5(-7.62,-1.27) M6(-6.35,-1.27) M7(-5.08,-1.27) M8(-3.81,-1.27) M9(-2.54,-1.27) M10(-1.27,-1.27) M11(0,-1.27) M12(1.27,-1.27) M13(2.54,-1.27) M14(3.81,-1.27) M15(5.08,-1.27) M16(6.35,-1.27) M17(7.62,-1.27) M18(8.89,-1.27) M19(10.16,-1.27) M20(11.43,-1.27) M21(12.7,-1.27) N1(-12.7,-2.54) N2(-11.43,-2.54) N3(-10.16,-2.54) N4(-8.89,-2.54) N5(-7.62,-2.54) N6(-6.35,-2.54) N7(-5.08,-2.54) N8(-3.81,-2.54) N9(-2.54,-2.54) N10(-1.27,-2.54) N11(0,-2.54) N12(1.27,-2.54) N13(2.54,-2.54) N14(3.81,-2.54) N15(5.08,-2.54) N16(6.35,-2.54) N17(7.62,-2.54) N18(8.89,-2.54) N19(10.16,-2.54) N20(11.43,-2.54) N21(12.7,-2.54) P1(-12.7,-3.81) P2(-11.43,-3.81) P3(-10.16,-3.81) P4(-8.89,-3.81) P5(-7.62,-3.81) P6(-6.35,-3.81) P7(-5.08,-3.81) P8(-3.81,-3.81) P9(-2.54,-3.81) P10(-1.27,-3.81) P11(0,-3.81) P12(1.27,-3.81) P13(2.54,-3.81) P14(3.81,-3.81) P15(5.08,-3.81) P16(6.35,-3.81) P17(7.62,-3.81) P18(8.89,-3.81) P19(10.16,-3.81) P20(11.43,-3.81) P21(12.7,-3.81) R1(-12.7,-5.08) R2(-11.43,-5.08) R3(-10.16,-5.08) R4(-8.89,-5.08) R5(-7.62,-5.08) R6(-6.35,-5.08) R7(-5.08,-5.08) R8(-3.81,-5.08) R9(-2.54,-5.08) R10(-1.27,-5.08) R11(0,-5.08) R12(1.27,-5.08) R13(2.54,-5.08) R14(3.81,-5.08) R15(5.08,-5.08) R16(6.35,-5.08) R17(7.62,-5.08) R18(8.89,-5.08) R19(10.16,-5.08) R20(11.43,-5.08) R21(12.7,-5.08) T1(-12.7,-6.35) T2(-11.43,-6.35) T3(-10.16,-6.35) T4(-8.89,-6.35) T5(-7.62,-6.35) T6(-6.35,-6.35) T7(-5.08,-6.35) T8(-3.81,-6.35) T9(-2.54,-6.35) T10(-1.27,-6.35) T11(0,-6.35) T12(1.27,-6.35) T13(2.54,-6.35) T14(3.81,-6.35) T15(5.08,-6.35) T16(6.35,-6.35) T17(7.62,-6.35) T18(8.89,-6.35) T19(10.16,-6.35) T20(11.43,-6.35) T21(12.7,-6.35) U1(-12.7,-7.62) U2(-11.43,-7.62) U3(-10.16,-7.62) U4(-8.89,-7.62) U5(-7.62,-7.62) U6(-6.35,-7.62) U7(-5.08,-7.62) U8(-3.81,-7.62) U9(-2.54,-7.62) U10(-1.27,-7.62) U11(0,-7.62) U12(1.27,-7.62) U13(2.54,-7.62) U14(3.81,-7.62) U15(5.08,-7.62) U16(6.35,-7.62) U17(7.62,-7.62) U18(8.89,-7.62) U19(10.16,-7.62) U20(11.43,-7.62) U21(12.7,-7.62) V1(-12.7,-8.89) V2(-11.43,-8.89) V3(-10.16,-8.89) V4(-8.89,-8.89) V5(-7.62,-8.89) V6(-6.35,-8.89) V7(-5.08,-8.89) V8(-3.81,-8.89) V9(-2.54,-8.89) V10(-1.27,-8.89) V11(0,-8.89) V12(1.27,-8.89) V13(2.54,-8.89) V14(3.81,-8.89) V15(5.08,-8.89) V16(6.35,-8.89) V17(7.62,-8.89) V18(8.89,-8.89) V19(10.16,-8.89) V20(11.43,-8.89) V21(12.7,-8.89) W1(-12.7,-10.16) W2(-11.43,-10.16) W3(-10.16,-10.16) W4(-8.89,-10.16) W5(-7.62,-10.16) W6(-6.35,-10.16) W7(-5.08,-10.16) W8(-3.81,-10.16) W9(-2.54,-10.16) W10(-1.27,-10.16) W11(0,-10.16) W12(1.27,-10.16) W13(2.54,-10.16) W14(3.81,-10.16) W15(5.08,-10.16) W16(6.35,-10.16) W17(7.62,-10.16) W18(8.89,-10.16) W19(10.16,-10.16) W20(11.43,-10.16) W21(12.7,-10.16) Y2(-11.43,-11.43) Y3(-10.16,-11.43) Y4(-8.89,-11.43) Y5(-7.62,-11.43) Y6(-6.35,-11.43) Y7(-5.08,-11.43) Y8(-3.81,-11.43) Y9(-2.54,-11.43) Y10(-1.27,-11.43) Y11(0,-11.43) Y12(1.27,-11.43) Y13(2.54,-11.43) Y14(3.81,-11.43) Y15(5.08,-11.43) Y16(6.35,-11.43) Y17(7.62,-11.43) Y18(8.89,-11.43) Y19(10.16,-11.43) Y20(11.43,-11.43)
Top Overlay:
  circle w0.25: c-14.15,12.7 r0.125
  region: -12.89,13.5 -13.5,12.89 -13.5,13.5
  lines w0.2: -13.5,12.89 -12.89,13.5 ; -13.5,-13.5 -13.5,13.5 13.5,13.5 13.5,-13.5 -13.5,-13.5
Mechanical 13:
  lines w0.1: -13.5,-13.5 -13.5,13.5 13.5,13.5 13.5,-13.5 -13.5,-13.5
Mechanical 15:
  lines w0.1: -0.5,0 0.5,0 ; 0,-0.5 0,0.5 ; -14.5,-14.5 -14.5,14.5 14.5,14.5 14.5,-14.5 -14.5,-14.5
3D body: height 3.3, standoff 0, extent -13.5,-13.5 13.5,13.5